# EAGLE library part STLZ_1550/7GV (library con-ptr-stlz1550)
HEADER
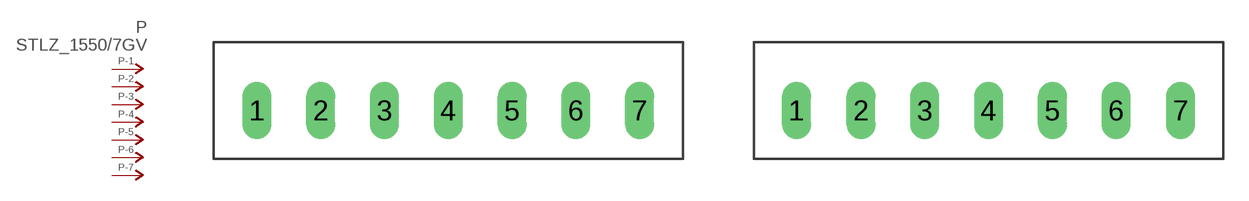
[diagram p3: symbol with the pads of PAC-07; footprints PAC-07, PAC-07_0P05MM_OFFSET]

Designator prefix P; gates -1=P-NV -2=P-N -3=P-N -4=P-N -5=P-N -6=P-N -7=P-N

## STLZ_1550/7GV (OC_RET: 53-24-19)  [PAC-07]
1  -1:P  pas
2  -2:P  pas
3  -3:P  pas
4  -4:P  pas
5  -5:P  pas
6  -6:P  pas
7  -7:P  pas

## STLZ_1550/7GV0P05MM_OFFSET  [PAC-07_0P05MM_OFFSET]
Pads as for PAC-07

## STLZ_1550/7GV0P1MM_OFFSET  [PAC-07_0P1MM_OFFSET]
Pads as for PAC-07

## Footprint PAC-07 (pad centres in mm)
HEADER
drill 1.15 long: 1 -11.43,0; 2 -7.62,0; 3 -3.81,0; 4 0,0; 5 3.81,0; 6 7.62,0; 7 11.43,0

## Footprint PAC-07_0P05MM_OFFSET (pad centres in mm)
1st and 7th pins are off from the pitch with ±0.05 mm to secure the connector before the TH soldering.
drill 1.15 long: 1 -11.48,0; 2 -7.62,0; 3 -3.81,0; 4 0,0; 5 3.81,0; 6 7.62,0; 7 11.48,0

## Footprint PAC-07_0P1MM_OFFSET (pad centres in mm)
1st and 7th pins are off from the pitch with ±0.1 mm to secure the connector before the TH soldering.
drill 1.15 long: 1 -11.53,0; 2 -7.62,0; 3 -3.81,0; 4 0,0; 5 3.81,0; 6 7.62,0; 7 11.53,0